# Altium footprint library AdjResistors.PcbLib: 1 footprints
Each footprint in its own frame and in the unit in brackets; x right, y up, seen from the top. Pads: shape width x height; smd on the part's side, far side on the other; paste and mask are expansions set on the pad; w line width, h text height; cw(c..) or ccw(c..) is an arc to the next point about the centre after c.
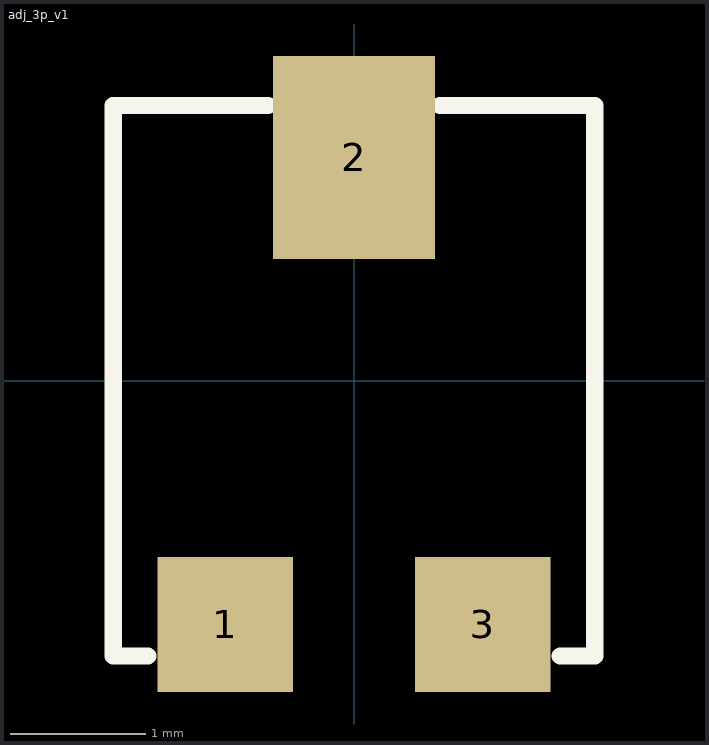
[diagram p0: the footprint, top view; thin cyan lines are the x and y axes]

## adj_3p_v1 [mm]
pads (3):
  rect 1x1 smd: 1(-0.95,-1.8) 3(0.95,-1.8)
  rect 1.2x1.5 smd: 2(0,1.65)
Top Overlay:
  lines w0.127: -1.524,-2.032 -1.778,-2.032 -1.778,2.032 -0.635,2.032 ; 0.635,2.032 1.778,2.032 1.778,-2.032 1.524,-2.032